# Altium footprint library RayPCB20210502.PcbLib: 218 footprints (part 5 of 14)
Each footprint in its own frame and in the unit in brackets; x right, y up, seen from the top. Pads: shape width x height; smd on the part's side, far side on the other; paste and mask are expansions set on the pad; w line width, h text height; cw(c..) or ccw(c..) is an arc to the next point about the centre after c.
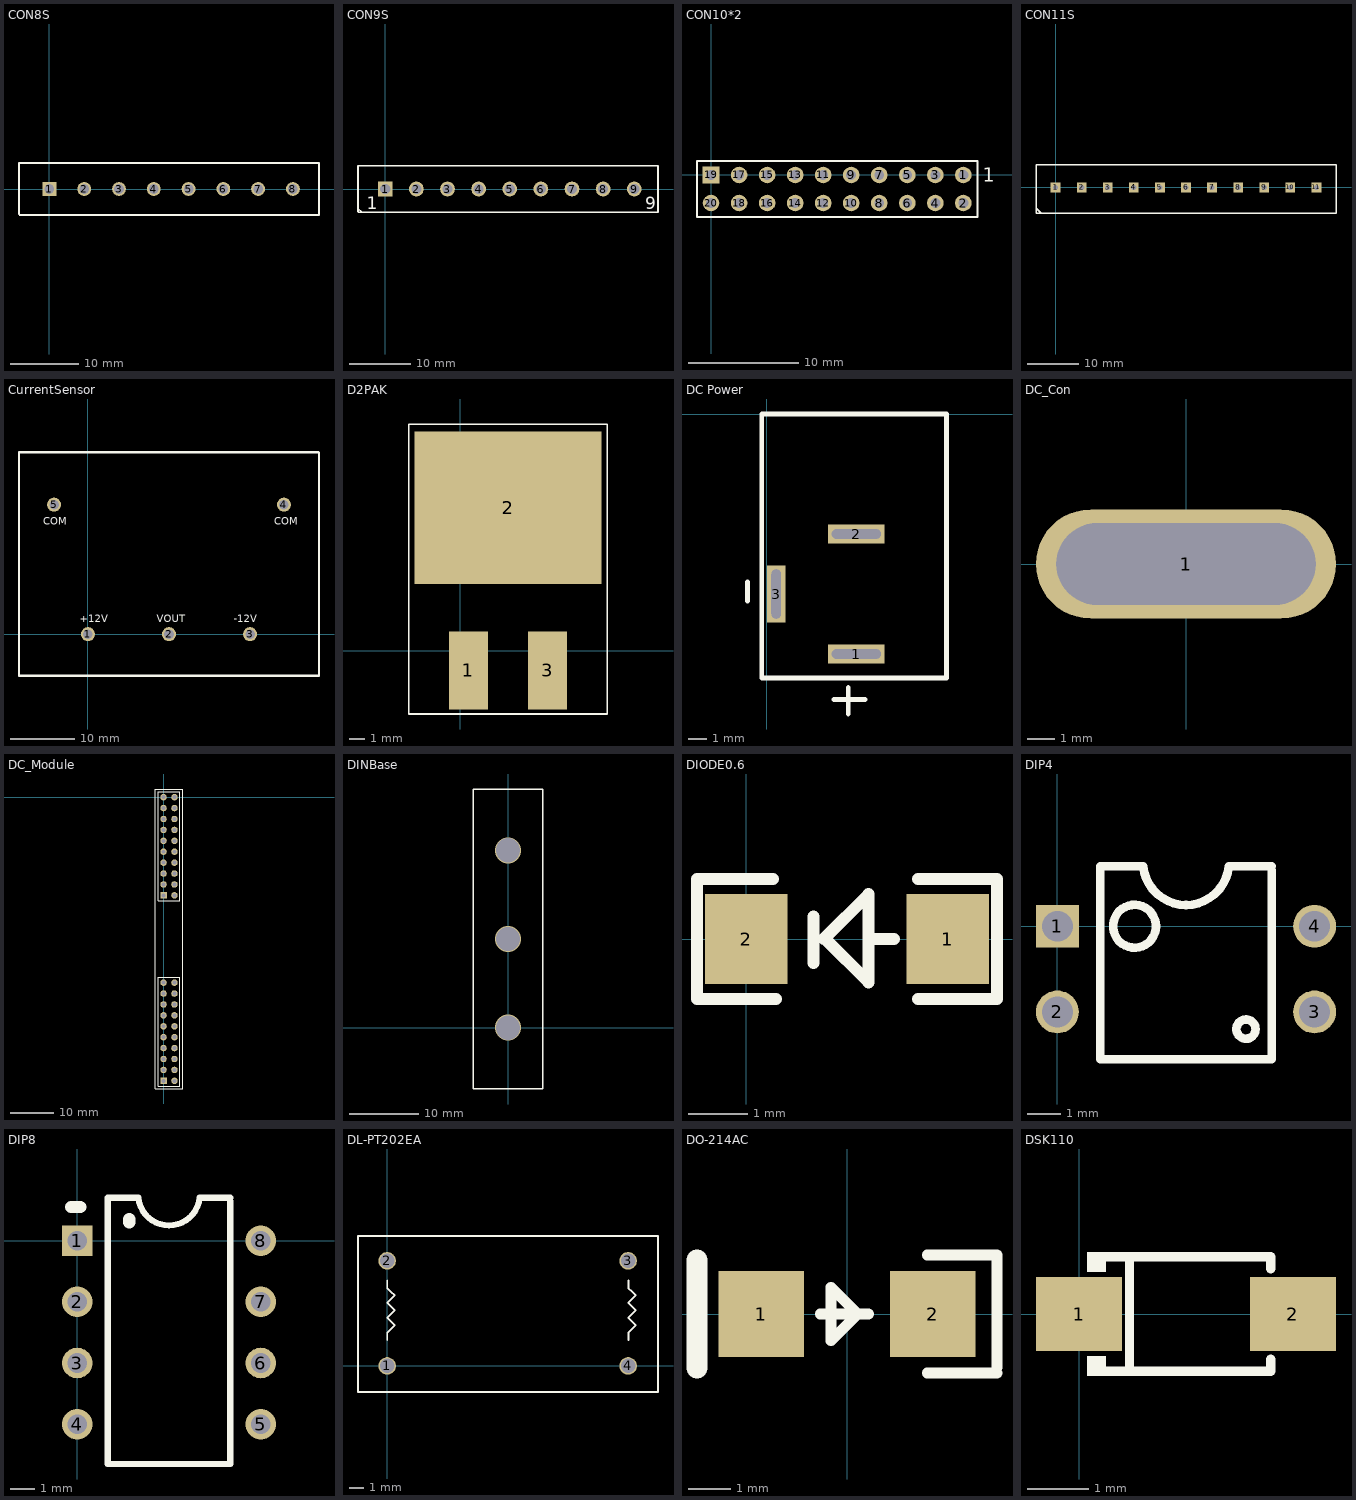
[diagram p4: the footprints below, top view; thin cyan lines are the x and y axes]

## CON8S [mil]
pads (8):
  rect 80x80 hole 55: 1(0,0)
  round 80 hole 55: 2(200,0) 3(400,0) 4(600,0) 5(800,0) 6(1000,0) 7(1200,0) 8(1400,0)
Top Overlay:
  lines w10: -175,-125 -175,-105 ; -175,-145 -170,-150 1550,-150 1550,150 -175,150 -175,-145

## CON9S [mil]
pads (9):
  rect 95x95 hole 65: 1(0,0)
  round 95 hole 65: 2(200,0) 3(400,0) 4(600,0) 5(800,0) 6(1000,0) 7(1200,0) 8(1400,0) 9(1600,0)
Top Overlay:
  lines w10: -175,-105 -175,-125 -150,-150 ; -175,-145 -175,150 1752.5,150 1752.5,-150 -170,-150 -175,-145
  text "1" at -120,-130 h80
  text "9" at 1670,-130 h80

## CON10*2 [mm]
pads (20):
  round 1.5 hole 0.9: 1(22.86,0) 2(22.86,-2.54) 3(20.32,0) 4(20.32,-2.54) 5(17.78,0) 6(17.78,-2.54) 7(15.24,0) 8(15.24,-2.54) 9(12.7,0) 10(12.7,-2.54) 11(10.16,0) 12(10.16,-2.54) 13(7.62,0) 14(7.62,-2.54) 15(5.08,0) 16(5.08,-2.54) 17(2.54,0) 18(2.54,-2.54) 20(0,-2.54)
  rect 1.5x1.5 hole 0.9: 19(0,0)
Top Overlay:
  lines w0.2: -1.27,-3.81 -1.27,1.27 22.225,1.27 24.13,1.27 24.13,-3.81 22.225,-3.81 -1.27,-3.81
  text "1" at 24.638,-0.635 h1.27

## CON11S [mil]
pads (11):
  rect 75x75 hole 40 square: 1(0,0) 2(200,0) 3(400,0) 4(600,0) 5(800,0) 6(1000,0) 7(1200,0) 8(1400,0) 9(1600,0) 10(1800,0) 11(2000,0)
Top Overlay:
  lines w10: -150,-150 -150,-160 -115,-195 -115,-200 ; -150,-200 -150,175 -100,175 2150,175 2150,-200 -150,-200

## CurrentSensor [mm]
pads (5):
  round 2.2 hole 1.5: 1(0,0) 2(12.7,0) 3(25.4,0) 4(30.7,20.3) 5(-5.3,20.3)
Top Overlay:
  lines w0.381: -10.8,28.5 36.125,28.5 36.2,28.425 36.2,-6.5 -10.8,-6.5 -10.8,28.49 -10.795,28.495
  text "+12V" at -1.27,1.905 h1.14
  text "-12V" at 22.86,1.905 h1.14
  text "VOUT" at 10.795,1.905 h1.14
  text "COM" at -6.985,17.145 h1.14
  text "COM" at 29.21,17.145 h1.14

## D2PAK [mm]
pads (3):
  rect 2.5x5 smd: 1(0.508,-1.27) 3(5.588,-1.27)
  rect 12x9.75 smd: 2(3.048,9.144)
Top Overlay:
  lines w0.1: -3.302,-4.064 9.398,-4.064 9.398,14.478 -3.302,14.478 -3.302,-4.064

## DC Power [mm]
pads (3):
  rect 3x1 hole 0.5 slot 2.6 at 0 deg: 1(4.75,-12.7) 2(4.75,-6.35)
  rect 1x3 hole 0.5 slot 2.6 at 90 deg: 3(0.508,-9.525)
Top Overlay:
  lines w0.254: -1.016,-9.906 -1.016,-8.89 ; 3.556,-15.113 3.81,-15.113 5.207,-15.113 ; 4.318,-15.875 4.318,-14.478 ; -0.254,-13.97 9.525,-13.97 9.525,0 -0.254,0 -0.254,-13.97

## DC_Con [mm]
pads (1):
  oval 11x4 hole 3 slot 9.5 at 0 deg: 1(0,0)

## DC_Module [mm]
pads (40):
  round 1.5 hole 0.9: 1(0,0) 2(2.54,0) 3(0,-2.54) 4(2.54,-2.54) 5(0,-5.08) 6(2.54,-5.08) 7(0,-7.62) 8(2.54,-7.62) 9(0,-10.16) 10(2.54,-10.16) 11(0,-12.7) 12(2.54,-12.7) 13(0,-15.24) 14(2.54,-15.24) 15(0,-17.78) 16(2.54,-17.78) 17(0,-20.32) 18(2.54,-20.32) 20(2.54,-22.86) 21(0,-43.18) 22(2.54,-43.18) 23(0,-45.72) 24(2.54,-45.72) 25(0,-48.26) 26(2.54,-48.26) 27(0,-50.8) 28(2.54,-50.8) 29(0,-53.34) 30(2.54,-53.34) 31(0,-55.88) 32(2.54,-55.88) 33(0,-58.42) 34(2.54,-58.42) 35(0,-60.96) 36(2.54,-60.96) 37(0,-63.5) 38(2.54,-63.5) 40(2.54,-66.04)
  rect 1.5x1.5 hole 0.9: 19(0,-22.86) 39(0,-66.04)
Top Overlay:
  lines w0.2: -1.27,-67.31 -1.27,-43.815 -1.27,-41.91 3.81,-41.91 3.81,-43.815 3.81,-67.31 -1.27,-67.31 ; -1.27,-24.13 -1.27,-0.635 -1.27,1.27 3.81,1.27 3.81,-0.635 3.81,-24.13 -1.27,-24.13
  lines w0.254: -1.905,-67.945 -1.905,1.905 4.445,1.905 4.445,-67.945 -1.905,-67.945

## DINBase [mil]
via 0,500 diameter 145.67 hole 137.8
via 0,1000 diameter 145.67 hole 137.8
via 0,0 diameter 145.67 hole 137.8
Top Overlay:
  lines w8: -196.85,-346.46 -196.85,1346.46 196.85,1346.46 196.85,-346.46 -196.85,-346.46

## DIODE0.6 [mil]
pads (2):
  rect 55.12x60 smd: 1(135,0) 2(0,0)
Top Overlay:
  lines w8: 18,40 -32.87,40 -32.87,-40 20,-40 ; 45,-16 45,15 ; 82,0 99,0 ; 115,-40 167.87,-40 167.87,40 115,40 ; 52,0 82,30 82,-29 53,0 52,0

## DIP4 [mil] "TL521"
pads (4):
  rect 50x50 hole 36: 1(0,0)
  round 50 hole 36: 2(0,-100) 3(300,-100) 4(300,0)
Top Overlay:
  circle w10: c220,-120 r11.18
  circle w10: c90,0 r25
  lines w10: 250,65 250,-155 50,-155 50,70 100,70 ccw(c150,75) 200,70 250,70

## DIP8 [mil]
pads (8):
  rect 50x50 hole 32: 1(0,0)
  round 50 hole 32: 2(0,-100) 3(0,-200) 4(0,-300) 5(300,-300) 6(300,-200) 7(300,-100) 8(300,0)
Top Overlay:
  lines w10: 250,65 250,-365 50,-365 50,70 100,70 ccw(c150,75) 200,70 250,70
  lines w20: -10,55 5,55 ; 85,30 85,35

## DL-PT202EA [mm]
pads (4):
  round 1.2 hole 1: 1(0,0) 2(0,7.2) 3(16.5,7.2) 4(16.5,0)
Top Overlay:
  lines w0.127: 0,1.778 0,2.286 0.508,2.794 0,3.302 0.508,3.81 0,4.318 0.508,4.826 0.254,5.08 0,5.334 0,5.842 ; 16.51,1.778 16.51,2.286 17.018,2.794 16.51,3.302 17.018,3.81 16.51,4.318 17.018,4.826 16.764,5.08 16.51,5.334 16.51,5.842 ; -2,-1.778 -2,8.89 18.542,8.89 18.542,-1.778 -2,-1.778

## DO-214AC [mil]
pads (2):
  rect 80x80 smd: 1(-80,0) 2(80,0)
Top Overlay:
  lines w10: -25,0 20,0 ; 75,-55 140,-55 ; 75,55 140,55 140,-50 ; -15,-25 -15,25 10,0 -15,-25
  lines w20: -140,-50 -140,50

## DSK110 [mm] "SOD-123"
pads (2):
  rect 1.4x1.2 smd: 1(0,0) 2(3.47,0)
Top Overlay:
  region: 0.435,-1.002 0.435,-0.682 0.13,-0.682 0.13,-1.002
  region: 0.435,1.002 0.435,0.682 0.13,0.682 0.13,1.002
  lines w0.152: 0.359,-0.926 3.111,-0.926 3.111,-0.733 ; 0.359,0.926 3.111,0.926 3.111,0.733 ; 0.818,-0.876 0.818,0.876
Mechanical 15:
  region: 3.482,-0.384 3.29,-0.384 3.29,0.384 3.482,0.384
  region: 3.77,0.096 3.77,-0.096 3.002,-0.096 3.002,0.096
  region: -0.297,0.127 -0.297,-0.065 0.471,-0.065 0.471,0.127